# EAGLE library part ADC,LTC2389-16 (library QuantumOptics)
LTC2389-16 ADC, 16-bit 2.5MSPS parallel/serial, wide input range. EP on QFN pkg only.
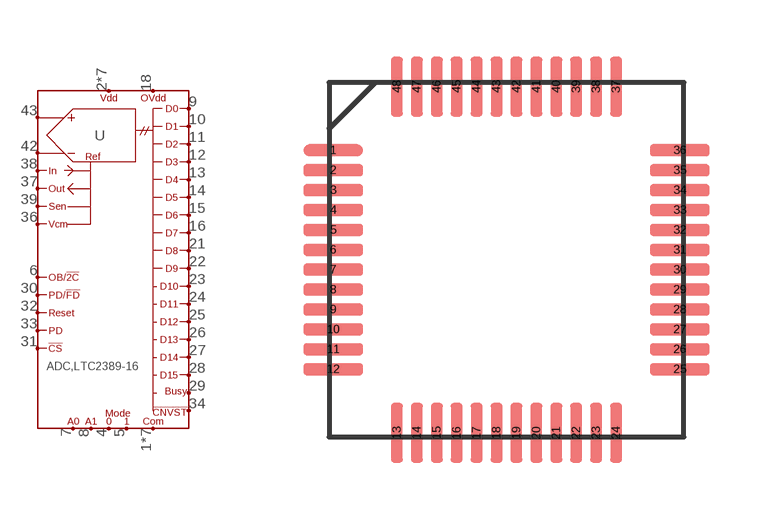
[diagram p227: symbol with the pads of QFP48; footprint QFP48]

Designator prefix U

## ADC,LTC2389-16-LQFP48  [QFP48]
1  COM
2  VDD
3  VDD
4  MODE0  in
5  MODE1  in
6  OB!2C  in
7  A0  in
8  A1  in
9  D0  out
10  D1  out
11  D2  out
12  D3  out
13  D4  out
14  D5  out
15  D6  out
16  D7  out
17  COM
18  OVDD
19  VDD
20  COM
21  D8  out
22  D9  out
23  D10  out
24  D11  out
25  D12  out
26  D13  out
27  D14  out
28  D15  out
29  BUSY  out
30  PD!FD  in
31  !CS  in
32  RESET  in
33  PD  in
34  !CNVST  in
35  COM
36  VCM
37  REF-OUT  out
38  REF-IN  in
39  REF-SEN
40  VDD
41  COM
42  IN-  in
43  IN+  in
44  COM
45  VDD
46  VDD
47  VDD
48  COM

## Footprint QFP48 (pad centres in mm)
LQFN-48, 7x7mm, based on Linear Tech pkg.
smd 1.5 x 0.3: 1 -4.35,2.75; 2 -4.35,2.25; 3 -4.35,1.75; 4 -4.35,1.25; 5 -4.35,0.75; 6 -4.35,0.25; 7 -4.35,-0.25; 8 -4.35,-0.75; 9 -4.35,-1.25; 10 -4.35,-1.75; 11 -4.35,-2.25; 12 -4.35,-2.75; 25 4.35,-2.75; 26 4.35,-2.25; 27 4.35,-1.75; 28 4.35,-1.25; 29 4.35,-0.75; 30 4.35,-0.25; 31 4.35,0.25; 32 4.35,0.75; 33 4.35,1.25; 34 4.35,1.75; 35 4.35,2.25; 36 4.35,2.75
smd 0.3 x 1.5: 13 -2.75,-4.35; 14 -2.25,-4.35; 15 -1.75,-4.35; 16 -1.25,-4.35; 17 -0.75,-4.35; 18 -0.25,-4.35; 19 0.25,-4.35; 20 0.75,-4.35; 21 1.25,-4.35; 22 1.75,-4.35; 23 2.25,-4.35; 24 2.75,-4.35; 37 2.75,4.35; 38 2.25,4.35; 39 1.75,4.35; 40 1.25,4.35; 41 0.75,4.35; 42 0.25,4.35; 43 -0.25,4.35; 44 -0.75,4.35; 45 -1.25,4.35; 46 -1.75,4.35; 47 -2.25,4.35; 48 -2.75,4.35